# Altium footprint library Flanery.PcbLib: 125 footprints (part 2 of 8)
Each footprint in its own frame and in the unit in brackets; x right, y up, seen from the top. Pads: shape width x height; smd on the part's side, far side on the other; paste and mask are expansions set on the pad; w line width, h text height; cw(c..) or ccw(c..) is an arc to the next point about the centre after c.
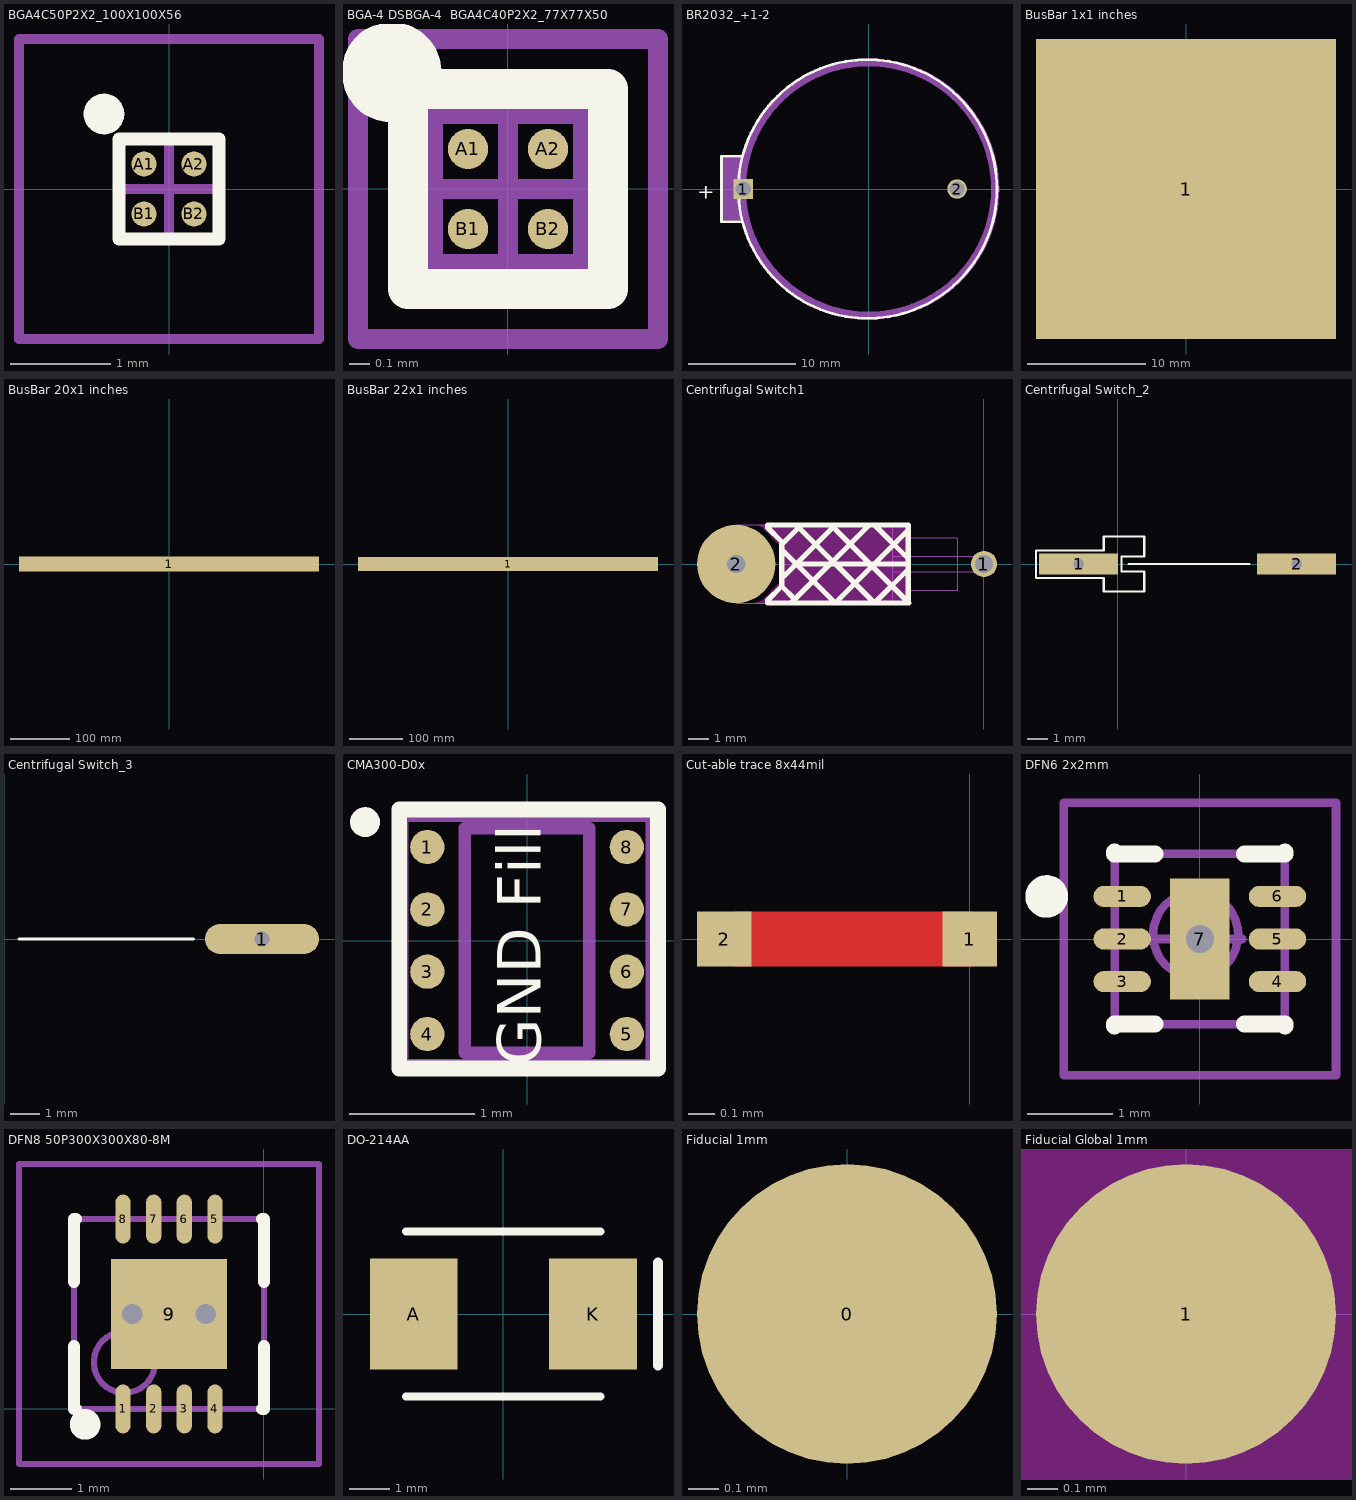
[diagram p1: the footprints below, top view; thin cyan lines are the x and y axes]

## BGA4C50P2X2_100X100X56 [mm] "BGA, 4-Leads, Body 1.0x1.0mm,  Pitch 0.50mm"
height 0.56
pads (4):
  round 0.25 smd: A1(-0.25,0.25) A2(0.25,0.25) B1(-0.25,-0.25) B2(0.25,-0.25)
Top Overlay:
  circle w0.203: c-0.65,0.75 r0.102
  lines w0.127: -0.5,-0.5 0.5,-0.5 0.5,0.5 -0.5,0.5 -0.5,-0.5
Mechanical 13:
  lines w0.1: -0.5,-0.5 0.5,-0.5 0.5,0.5 -0.5,0.5 -0.5,-0.5
Mechanical 15:
  lines w0.1: -0.5,0 0.5,0 ; 0,-0.5 0,0.5 ; -1.5,-1.5 1.5,-1.5 1.5,1.5 -1.5,1.5 -1.5,-1.5
3D body: height 0.56, standoff 0.2, extent -0.5,-0.5 0.5,0.5

## BGA-4 DSBGA-4  BGA4C40P2X2_77X77X50 [mm] "BGA, 4-Leads, Body 0.8x0.8mm,  Pitch 0.40mm"
height 0.5
pads (4):
  round 0.2 smd paste-0.025 mask+0.064: A1(-0.2,0.2) A2(0.2,0.2) B1(-0.2,-0.2) B2(0.2,-0.2)
Top Overlay:
  circle w0.25: c-0.582,0.584 r0.125
  lines w0.2: -0.5,-0.5 -0.5,0.5 0.5,0.5 0.5,-0.5 -0.5,-0.5
Mechanical 13:
  lines w0.1: -0.375,-0.375 -0.375,0.375 0.375,0.375 0.375,-0.375 -0.375,-0.375
Mechanical 15:
  lines w0.1: -0.5,0 0.5,0 ; 0,-0.5 0,0.5 ; -0.75,-0.75 -0.75,0.75 0.75,0.75 0.75,-0.75 -0.75,-0.75
3D body: height 0.5, standoff 0.19, extent -0.375,-0.375 0.375,0.375

## BR2032_+1-2 [mil]
pads (2):
  rect 72x72 / inner round 72 / far side round 72 hole 56: 1(-460,0)
  round 72 hole 56: 2(325,0)
Top Overlay:
  circle w10: c-3.5,0 r475
  lines w10: -465,-120 -540,-120 -540,120 -465,120
  text "+" at -630,-35 h56.25
Mechanical 1:
  circle w30: c0,0 r465
Mechanical 13:
  region: -535,115 -470,115 -470,-115 -535,-115
3D body: height 277, standoff 10, extent -465.42,-465.42 465.42,465.42

## BusBar 1x1 inches [mm]
pads (1):
  rect 25.4x25.4 smd: 1(0,0)

## BusBar 20x1 inches [mm]
pads (1):
  rect 508x25.4 smd: 1(0,0)

## BusBar 22x1 inches [mm]
pads (1):
  rect 558.8x25.4 smd: 1(0,0)

## Centrifugal Switch1 [mil] "Spring and post"
pads (2):
  round 50 hole 35: 1(0,0)
  round 150 / inner round 50 / far side round 50 hole 35 paste-600: 2(-475,0)
Top Layer keep-out:
  region: -140,75 -140,-75 -440,-75 -425,-70 -390,-35 -390,35 -425,70 -435,75
Top Overlay:
  lines w10: -387.5,27.5 -285,-75 ; -387.5,42.5 -415,70 -415,75 -145,75 -145,-75 ; -382.5,-22.5 -285,75 ; -375,-75 -370,-75 -220,75 -210,75 -145,10 -145,-10 -210,-75 -355,70 -387.5,37.5 -387.5,-42.5 ; -365,-65 -387.5,-42.5 ; -362,0 -144.81,0 ; -283.64,65 -143.64,-75 -415,-75 -415,-70 -387.5,-42.5 ; -280,-75 -285,-75 ; -163.28,46.72 -145,65 ; -154.58,55.42 -285,-75
Mechanical 1:
  lines w1: 15,-15 15,15 ; 15,-15 -15,-15 -15,15 15,15 ; 15,-15 -175,-15 -175,15 15,15 ; 15,-15 15,15 ; -475,-75 -175,-75 -175,75 -475,75 -475,-75 ; -140,-50 -50,-50 -50,50 -140,50 -140,-50
3D body: height 149.41, standoff 0, extent -475,-75 -175,74.7
3D body: height 80, standoff 50, extent -174.98,-14.98 -140.02,14.98
3D body: height 138, standoff 0, extent -139.98,-49.98 -50.02,-15.02
3D body: height 138, standoff 0, extent -139.98,-14.98 -50.02,14.98
3D body: height 138, standoff 0, extent -139.98,15.02 -50.02,49.98
3D body: height 80, standoff 50, extent -49.98,-14.98 -15.02,14.98
3D body: height 80, standoff 0, extent -14.98,-14.98 14.98,14.98

## Centrifugal Switch_2 [mil] "Thin wire touches resistor pad"
height 19.68
pads (2):
  rect 150x40 / inner round 40 / far side round 40 hole 20 unplated: 1(-75,0) 2(340,0)
Top Overlay:
  lines w4: 20,0 250,0 ; -156,-27 -156,26 -27,26 -27,52 50,52 50,14 7,14 7,-14 50,-14 50,-52 -27,-52 -27,-27 -156,-27
Mechanical 1:
  text "Mouser 534-4950" at -235,-151 h40
  text "Keystone Testpoint 4950" at -234,-116 h40
  text "24AWG solid wire, 10mm" at 123,44 h40
3D body: height 8.98, standoff 0, extent 16,-5 409.7,4
3D body: height 25, standoff 0, extent -150,-20 -24,20
3D body: height 25, standoff 0, extent -24,-49 0,49
3D body: height 25, standoff 0, extent 0,-49 47,-17
3D body: height 25, standoff 0, extent 0,17 47,49

## Centrifugal Switch_3 [mil] "Thin wire touches resistor pad"
height 19.68
pads (1):
  oval 150x40 / inner round 40 / far side round 40 hole 20 unplated: 1(340,0)
Top Overlay:
  lines w4: 20,0 250,0
Mechanical 1:
  text "24AWG solid wire, 10mm" at 123,44 h40
3D body: height 8.98, standoff 0, extent 16,-5 409.7,4

## CMA300-D0x [mm] "VTI Tech Accelerometer"
height 0.95
pads (8):
  round 0.275 smd mask+0.05: 1(-0.8,0.75) 2(-0.8,0.25) 3(-0.8,-0.25) 4(-0.8,-0.75) 5(0.8,-0.75) 6(0.8,-0.25) 7(0.8,0.25) 8(0.8,0.75)
Top Overlay:
  circle w0.127: c-1.3,0.95 r0.056
  lines w0.127: -1.025,-1.025 -1.025,1.05 1.05,1.05 1.05,-1.025 -1.025,-1.025
  text "GND Fill" at 0.225,-1 h0.6
Mechanical 13:
  lines w0.1: -1,-1 -1,1 1,1 1,-1 -1,-1 ; -0.5,-0.9 -0.5,0.9 0.5,0.9 0.5,-0.9 -0.5,-0.9
3D body: height 0.95, standoff 0.25, extent -1.05,-1.05 1.05,1.05
3D body: height 0.32, standoff -0.02, extent -0.95,0.575 -0.622,0.904
3D body: height 0.32, standoff -0.02, extent -0.95,0.075 -0.622,0.404
3D body: height 0.32, standoff -0.02, extent -0.95,-0.425 -0.622,-0.096
3D body: height 0.32, standoff -0.02, extent -0.95,-0.925 -0.622,-0.596
3D body: height 0.32, standoff -0.02, extent 0.625,-0.925 0.953,-0.596
3D body: height 0.32, standoff -0.02, extent 0.625,-0.425 0.953,-0.096
3D body: height 0.32, standoff -0.02, extent 0.625,0.075 0.953,0.404
3D body: height 0.32, standoff -0.02, extent 0.625,0.575 0.953,0.904
3D body: height 0.26, standoff 0.12, extent -0.499,-0.899 0.499,0.899

## Cut-able trace 8x44mil [mil] "Use instead of 0-Ohm resistor."
pads (2):
  rect 8x8 smd: 1(0,0) 2(-36,0)
Top Layer:
  lines w8: -34,0 0,0
Top Solder:
  lines w16: -35,0 0,0

## DFN6 2x2mm [mm] "Reference LTC DWG # 05-08-1703"
height 0.755
pads (7):
  oval 0.675x0.25 smd: 1(-0.913,0.5) 2(-0.913,0) 3(-0.913,-0.5) 4(0.913,-0.5) 5(0.913,0) 6(0.913,0.5)
  rect 0.7x1.42 smd: 7(0,0)
via 0,0 diameter 0.66 hole 0.33
Top Overlay:
  circle w0.25: c-1.8,0.5 r0.125
  lines w0.2: -1,-1.025 -1,-1 -0.525,-1 ; -1,1.025 -1,1 -0.525,1 ; 0.525,-1 1,-1 1,-1.025 ; 0.525,1 1,1 1,1.025
Mechanical 13:
  circle w0.1: c-0.05,0.05 r0.5
  lines w0.1: -1,-1 1,-1 1,1 -1,1 -1,-1
Mechanical 15:
  lines w0.1: -0.5,0 0.5,0 ; 0,-0.5 0,0.5 ; -1.6,-1.6 1.6,-1.6 1.6,1.6 -1.6,1.6 -1.6,-1.6
3D body: height 0.75, standoff 0.05, extent -1,-1 1,1

## DFN8 50P300X300X80-8M [mm] "DFN8 , 8-Leads, Body 3x3mm (max), Pitch 0.50mm, IPC Low Density"
height 0.8
pads (9):
  oval 0.25x0.8 smd: 1(-2.3,0) 2(-1.8,0) 3(-1.3,0) 4(-0.8,0) 5(-0.8,3.1) 6(-1.3,3.1) 7(-1.8,3.1) 8(-2.3,3.1)
  rect 1.9x1.8 smd: 9(-1.55,1.55)
via -0.95,1.55 diameter 0.66 hole 0.33
via -2.15,1.55 diameter 0.66 hole 0.33
Top Overlay:
  circle w0.25: c-2.919,-0.254 r0.125
  lines w0.2: -3.1,1.025 -3.1,0 -3.075,0 ; -3.1,2.075 -3.1,3.1 -3.075,3.1 ; -0.025,0 0,0 0,1.025 ; -0.025,3.1 0,3.1 0,2.075
Mechanical 13:
  circle w0.1: c-2.278,0.762 r0.5
  lines w0.1: -3.1,0 0,0 0,3.1 -3.1,3.1 -3.1,0
Mechanical 15:
  lines w0.1: -2.05,1.55 -1.05,1.55 ; -1.55,1.05 -1.55,2.05 ; -4,-0.9 0.9,-0.9 0.9,4 -4,4 -4,-0.9
3D body: height 0.8, standoff 0.05, extent -3.1,0 0,3.1

## DO-214AA [mm]
pads (2):
  rect 2.159x2.743 smd: A(-2.21,0) K(2.21,0)
Top Overlay:
  lines w0.2: -2.398,-2.032 2.398,-2.032 ; -2.398,2.032 2.398,2.032
  lines w0.254: 3.81,-1.27 3.81,1.27

## Fiducial 1mm [mm] "Assembly alignment mark 1mm copper circle, 3mm soldermask"
pads (1):
  round 1 smd paste-1 mask+1: 0(0,0)

## Fiducial Global 1mm [mm]
pads (1):
  round 1 smd paste-0.6 mask+0.5: 1(0,0)
Top Solder keep-out:
  circle w1: c0,0 r0.5